# Altium footprint library SN74LVC1G04DSF2.PcbLib: 1 footprints
Each footprint in its own frame and in the unit in brackets; x right, y up, seen from the top. Pads: shape width x height; smd on the part's side, far side on the other; paste and mask are expansions set on the pad; w line width, h text height; cw(c..) or ccw(c..) is an arc to the next point about the centre after c.
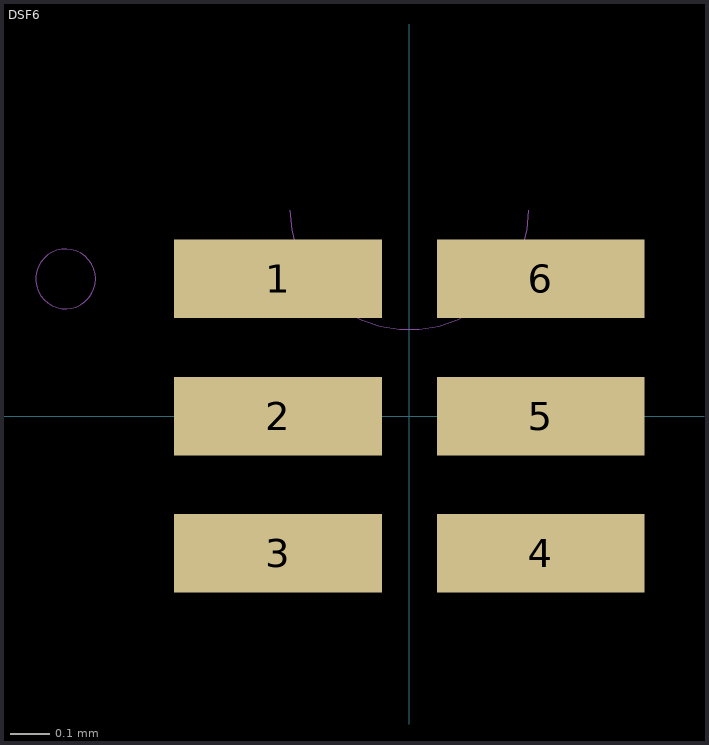
[diagram p0: the footprint, top view; thin cyan lines are the x and y axes]

## DSF6 [mm]
pads (6):
  rect 0.53x0.2 smd paste-0.1 mask-0.267: 1(-0.335,0.35) 2(-0.335,0) 3(-0.335,-0.35) 4(0.335,-0.35) 5(0.335,0) 6(0.335,0.35)
Top Paste:
  region: -0.095,0.425 -0.575,0.425 -0.575,0.275 -0.095,0.275
  region: -0.095,0.075 -0.575,0.075 -0.575,-0.075 -0.095,-0.075
  region: -0.095,-0.275 -0.575,-0.275 -0.575,-0.425 -0.095,-0.425
  region: 0.575,-0.275 0.095,-0.275 0.095,-0.425 0.575,-0.425
  region: 0.575,0.075 0.095,0.075 0.095,-0.075 0.575,-0.075
  region: 0.575,0.425 0.095,0.425 0.095,0.275 0.575,0.275
Top Solder:
  region: 0,0.52 -0.67,0.52 -0.67,0.18 0,0.18
  region: 0,0.17 -0.67,0.17 -0.67,-0.17 0,-0.17
  region: 0,-0.18 -0.67,-0.18 -0.67,-0.52 0,-0.52
  region: 0.67,-0.18 0,-0.18 0,-0.52 0.67,-0.52
  region: 0.67,0.17 0,0.17 0,-0.17 0.67,-0.17
  region: 0.67,0.52 0,0.52 0,0.18 0.67,0.18
Mechanical 13:
  circle w0: c-0.877,0.35 r0.076
  lines w0: -0.305,0.525 ccw(c0,0.525) 0.305,0.525